# EAGLE library part BQ76200 (library Public)
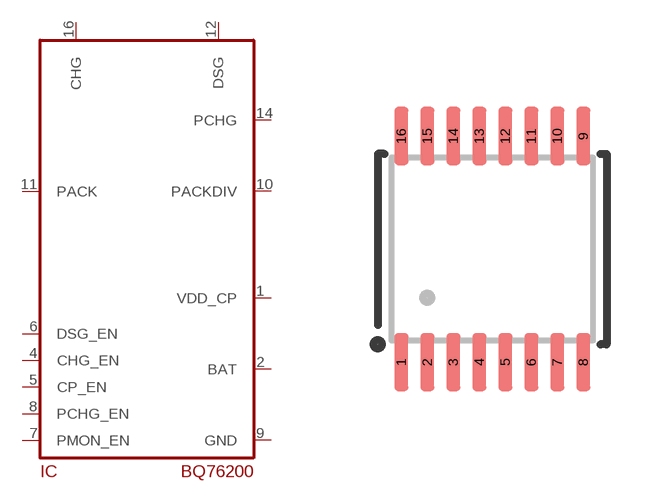
[diagram p235: symbol with the pads of TSSOP16; footprint TSSOP16]

Designator prefix IC

## BQ76200  [TSSOP16]
1  VDD_CP
2  BAT
4  CHG_EN
5  CP_EN
6  DSG_EN
7  PMON_EN
8  PCHG_EN
9  GND
10  PACKDIV
11  PACK
12  DSG
14  PCHG
16  CHG

## Footprint TSSOP16 (pad centres in mm)
smd 0.35 x 1.45: 1 -2.275,-2.825; 2 -1.625,-2.825; 3 -0.975,-2.825; 4 -0.325,-2.825; 5 0.325,-2.825; 6 0.975,-2.825; 7 1.625,-2.825; 8 2.275,-2.825; 9 2.275,2.825; 10 1.625,2.825; 11 0.975,2.825; 12 0.325,2.825; 13 -0.325,2.825; 14 -0.975,2.825; 15 -1.625,2.825; 16 -2.275,2.825